# Altium footprint library ngv-main.PcbLib: 5 footprints
Each footprint in its own frame and in the unit in brackets; x right, y up, seen from the top. Pads: shape width x height; smd on the part's side, far side on the other; paste and mask are expansions set on the pad; w line width, h text height; cw(c..) or ccw(c..) is an arc to the next point about the centre after c.
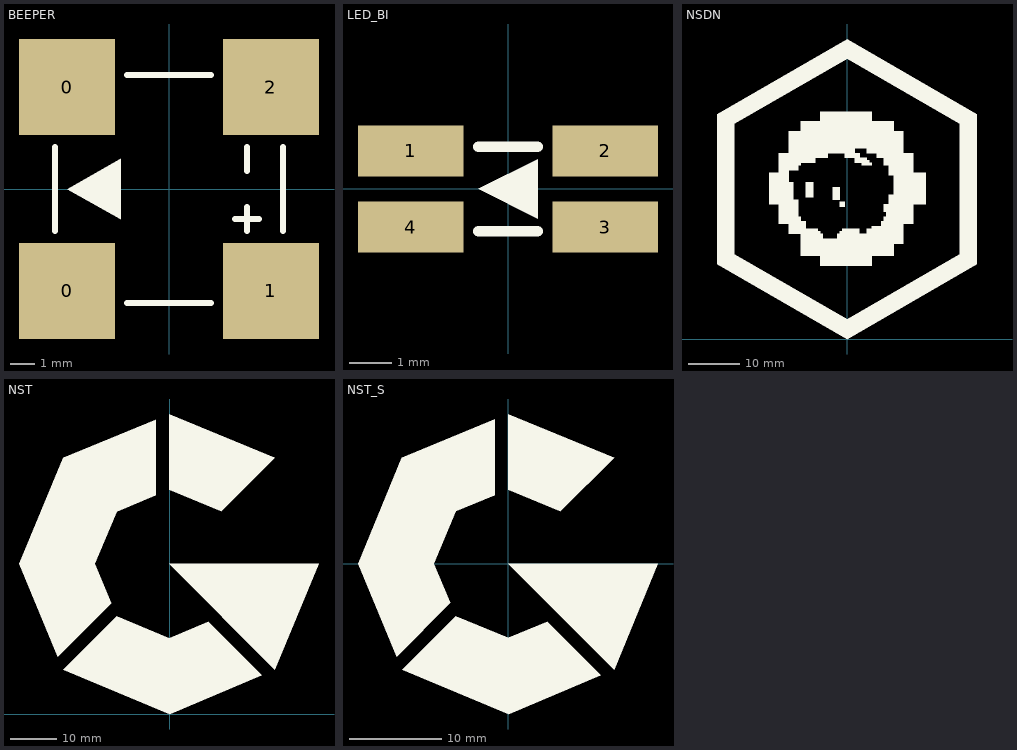
[diagram p0: the footprints below, top view; thin cyan lines are the x and y axes]

## BEEPER [mm]
pads (4):
  rect 4x4 smd: 0(-4.25,-4.25) 0(-4.25,4.25) 1(4.25,-4.25) 2(4.25,4.25)
Top Overlay:
  region: -4.25,0 -2,-1.25 -2,1.25
  lines w0.254: -4.75,-1.75 -4.75,1.75 ; -1.75,-4.75 1.75,-4.75 ; -1.75,4.75 1.75,4.75 ; 2.75,-1.25 3.75,-1.25 ; 3.25,-1.75 3.25,-0.75 ; 3.25,0.75 3.25,1.75 ; 4.75,-1.75 4.75,1.75

## LED_BI [mm]
pads (4):
  rect 2.5x1.2 smd: 1(-2.3,0.9) 2(2.3,0.9) 3(2.3,-0.9) 4(-2.3,-0.9)
Top Overlay:
  region: 0.7,0.7 0.7,-0.7 -0.7,0
  lines w0.254: -0.7,-1 0.7,-1 ; -0.7,1 0.7,1

## NSDN [mm]
Top Overlay:
  region: -1.397,26.695 -1.397,25.73 -0.432,25.73 -0.432,26.695
  region: -2.819,29.566 -2.819,27.165 -1.372,27.165 -1.372,29.566
  region: -8.052,30.505 -8.052,27.635 -6.604,27.635 -6.604,30.505
  region: -13.284,32.41 -13.284,36.22 -11.379,36.22 -11.379,40.488 -9.017,40.488 -9.017,42.393 -5.207,42.393 -5.207,44.247 4.801,44.247 4.801,42.393 9.093,42.393 9.093,40.488 10.998,40.488 10.998,36.22 12.903,36.22 12.903,32.41 9.093,31.928 8.128,31.928 8.128,33.833 7.188,33.833 7.188,35.255 5.766,35.255 5.766,36.22 3.861,36.22 3.861,37.16 1.473,37.16 1.473,36.22 2.438,36.22 2.438,35.281 3.861,35.281 3.861,34.798 4.331,34.798 4.331,34.315 4.826,34.315 4.826,33.833 2.896,33.833 2.896,34.315 1.473,34.315 1.473,35.255 -0.432,35.255 -0.432,36.22 -3.759,36.22 -3.759,35.255 -6.147,35.255 -6.147,34.315 -9.017,34.315 -9.017,33.833 -9.474,33.833 -9.474,32.893 -11.379,32.893
  region: -13.259,32.512
  region: -5.207,20.498 -5.207,14.249 4.801,14.249 4.801,16.205 9.093,16.205 9.093,18.593 10.998,18.593 10.998,22.403 12.903,22.403 12.903,26.213 15.291,26.213 15.291,32.41 12.903,32.41 9.093,31.928 9.093,28.118 8.128,28.118 8.128,26.213 7.188,26.213 7.188,24.79 7.671,24.79 7.671,23.851 7.188,23.851 7.188,22.885 6.706,22.885 6.706,21.92 4.801,21.92 4.801,21.45 3.861,21.45 3.861,20.498 2.413,20.498 2.413,21.45 -0.914,21.45 -0.914,20.98 -1.397,20.98 -1.397,20.498 -1.854,20.498 -1.854,19.533 -4.724,19.533 -4.724,20.498
  region: -10.439,27.153 -15.189,26.213 -13.284,26.213 -13.284,22.403 -11.379,22.403 -11.379,20.498 -9.017,20.498 -9.017,16.231 -5.207,16.231 -5.207,20.98 -5.664,20.98 -5.664,21.438 -6.655,21.438 -8.052,21.438 -8.052,22.885 -9.017,22.885 -9.017,23.825 -9.474,23.825 -9.474,27.153
  region: -15.189,32.41 -13.284,32.41 -11.379,32.893 -11.379,30.505 -10.439,30.505 -10.439,27.153 -15.189,26.213
  region: -21.996,16.51 -25.298,14.605 0,0 25.298,14.605 21.996,16.51 0,3.81
  region: 0,58.42 25.298,43.815 25.298,14.605 21.996,16.51 21.996,41.91 0,54.61
  region: -25.298,43.815 -25.298,14.605 -21.996,16.51 -21.996,16.891 -21.996,41.91 0,54.61 0,58.42

## NST [mm]
Top Overlay:
  region: -2.997,63.881 -23.114,55.55 -32.639,32.563 -24.308,12.446 -12.7,24.054 -16.205,32.563 -11.506,43.917 -2.997,47.447
  region: -11.506,21.184 -23.114,9.576 0,0 19.99,8.382 8.357,20.015 -0.127,16.485
  region: -0.127,32.563 22.86,9.576 32.385,32.563
  region: 11.252,43.942 -0.127,48.641 -0.127,65.075 22.86,55.55

## NST_S [mm]
Top Overlay:
  region: 5.69,5.69 11.506,11.506 0,16.256 0,8.052
  region: -5.671,-5.671 -11.481,-11.481 0.076,-16.281 10.058,-12.09 4.242,-6.274 0.032,-8.039
  region: 0,0 11.506,-11.481 16.256,0
  region: -1.422,15.672 -1.422,7.442 -5.664,5.69 -8.026,0 -6.274,-4.242 -12.09,-10.058 -16.256,0 -11.506,11.506